# Altium integrated library Thermostat_Lib.IntLib: 22 symbols
Pins are listed as number, name and electrical type; pins without a type are passive.

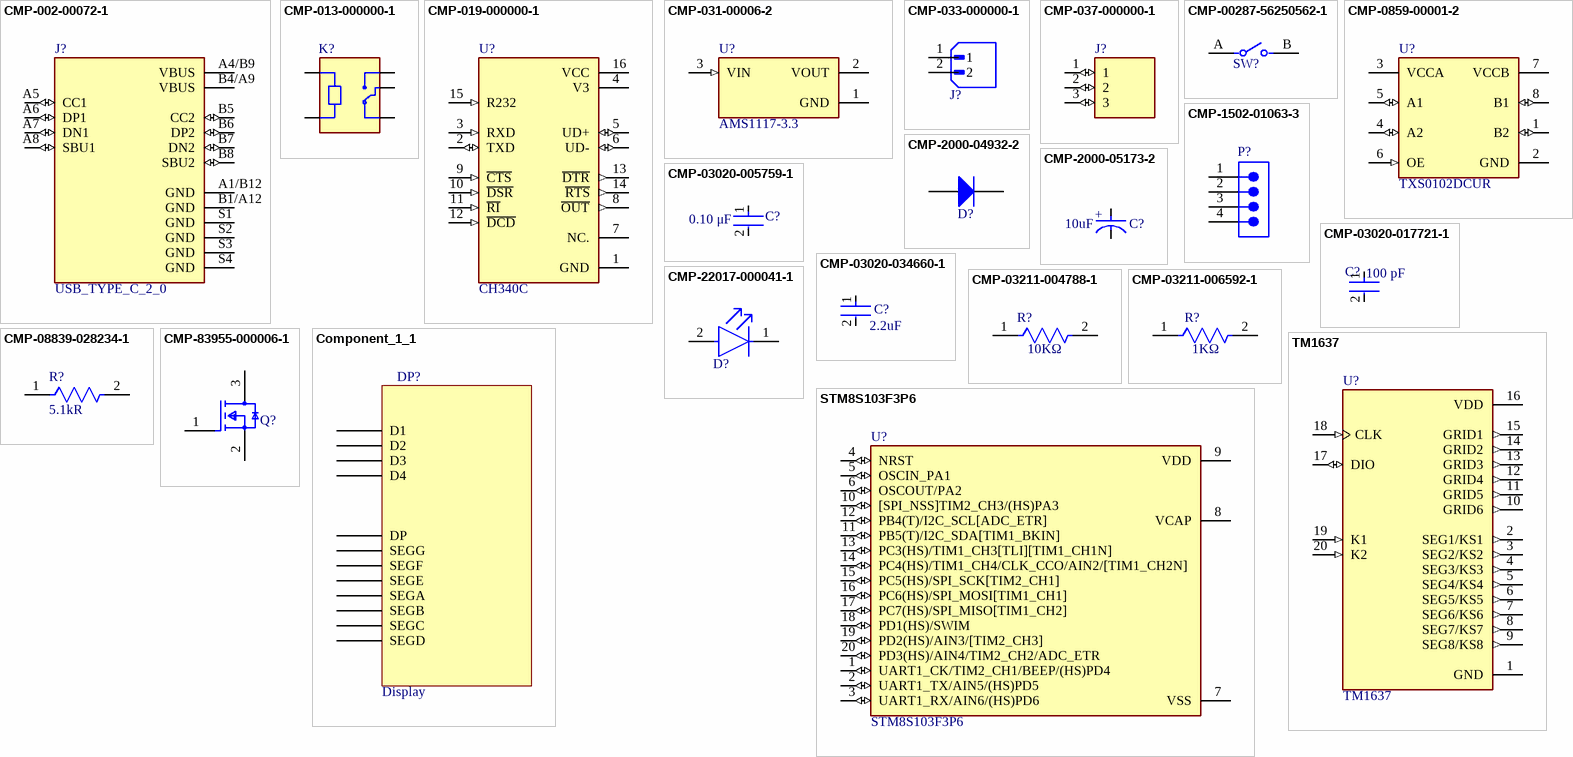
[diagram p0: symbols CMP-002-00072-1 to TM1637]

## CMP-002-00072-1
designator J?, comment USB_TYPE_C_2_0
USB-C (USB TYPE-C) USB 2.0 Receptacle Connector 24 (16+8 Dummy) Position Surface Mount, Right Angle; MP: USB4110GFA; MF: Global Connector Technology; Check_prices: https://www.snapeda.com/parts/USB4110GFA/Global+Connector+Technology/view-part/?ref=eda; Design Item ID: USB4110GFA; Source: USB4110GFA.SchLib; Pins: 16; Component Type: Standard; SnapEDA_Link: https://www.snapeda.com/parts/USB4110GFA/Global+Connector+Technology/view-part/?ref=snap; Value: *; Case/Package: None; Component Type: Connectors
footprint GCT_USB4110GFA
pins: A1/B12 GND (power), A4/B9 VBUS (power), A5 CC1 (io), A6 DP1 (io), A7 DN1 (io), A8 SBU1 (io), B1/A12 GND (power), B4/A9 VBUS (power), B5 CC2 (io), B6 DP2 (io), B7 DN2 (io), B8 SBU2 (io), S1 GND (power), S2 GND (power), S3 GND (power), S4 GND (power)

## CMP-013-000000-1
designator K?, comment SRD-05VDC-SL-C  (value not drawn)
5V Trigger Relay Module For Arduino And Raspberry Pi 5V Trigger Relay Module For Arduino And Raspberry Pi; MF: Songle Relay; Source: SRD-05VDC-SL-C.SchLib; Check_prices: https://www.snapeda.com/parts/SRD-05VDC-SL-C/Songle+Relay/view-part/?ref=eda; Component Type: Standard; MP: SRD-05VDC-SL-C; SnapEDA_Link: https://www.snapeda.com/parts/SRD-05VDC-SL-C/Songle+Relay/view-part/?ref=snap; Price: None; Package: NON STANDARD-5 Songle Relay; Availability: Not in stock; Design Item ID: SRD-05VDC-SL-C; Value: *; Pin Count: 5
footprint RELAY_SRD-05VDC-SL-C
pins: A1, A2, COM, NC, NO

## CMP-019-000000-1
designator U?, comment CH340C
USB to serial chip CH340; MF: WCH; Component Type: Standard; Design Item ID: CH340C; Availability: Not in stock; MP: CH340C; Value: *; Source: CH340C.SchLib; SnapEDA_Link: https://www.snapeda.com/parts/CH340C/WCH/view-part/?ref=snap; Package: None; Pin Count: 16; Check_prices: https://www.snapeda.com/parts/CH340C/WCH/view-part/?ref=eda; Price: None
footprint SOIC127P600X180-16N
pins: 1 GND (power), 2 TXD (io), 3 RXD (in), 4 V3 (power), 5 UD+ (io), 6 UD- (io), 7 NC., 8 ~{OUT} (out), 9 ~{CTS} (in), 10 ~{DSR} (in), 11 ~{RI} (in), 12 ~{DCD} (in), 13 ~{DTR} (out), 14 ~{RTS} (out), 15 R232 (in), 16 VCC (power)

## CMP-031-00006-2
designator U?, comment AMS1117-3.3
Linear Voltage Regulator IC Positive Fixed 1 Output 1A SOT-223-3L; MF: UMW; SnapEDA_Link: https://www.snapeda.com/parts/AMS1117-3.3/UMW/view-part/?ref=snap; Value: *; Pins: 3; Source: AMS1117-3.3.SchLib; Check_prices: https://www.snapeda.com/parts/AMS1117-3.3/UMW/view-part/?ref=eda; MP: AMS1117-3.3; Case/Package: SOT-223-3L UMW; Design Item ID: AMS1117-3.3; Component Type: Standard; Component Type: Integrated Circuits
footprint SOT229P700X180-4N
pins: 1 GND, 2 VOUT (power), 3 VIN (in)

## CMP-033-000000-1
designator J?, comment B2B-XH-A  (value not drawn)
MF: {'manufacturer': u'JST Sales America Inc.'}; Pin Count: 2; Source: B2B-XH-A.SchLib; Availability: Unavailable; Design Item ID: B2B-XH-A; Component Type: Standard; Value: *; Price: None; Package: None; MP: B2B-XH-A
footprint JST_B2B-XH-A
pins: 1, 2

## CMP-037-000000-1
designator J?, comment 39543-0603  (value not drawn)
3 Position Wire to Board Terminal Block Horizontal with Board 0.197 (5.00mm) Through Hole; MF: Molex; MP: 395430603; Component Type: Standard; SnapEDA_Link: https://www.snapeda.com/parts/395430603/Molex/view-part/?ref=snap; Package: None; Check_prices: https://www.snapeda.com/parts/395430603/Molex/view-part/?ref=eda; Value: *; Source: 39543-0603.SchLib; Design Item ID: 39543-0603; Pin Count: 3; Component Type: Mechanicals
footprint 39543-0603
pins: 1 (io), 2 (io), 3 (io)

## CMP-00287-56250562-1
designator SW?, comment EVQ-QJJ05Q  (value not drawn)
EVQ-QJJ05Q Switch Tactile N.O. SPST Round Button PC Pins 0.005A 12VDC 0.8N Thru-Hole Radial T/R; NexarPartId: 56250562; Current Rating: 5mA; Life (Cycles): 1Mcycles; Switch Travel: 1mm; Illumination Type: Illuminated, Non-Illuminated; Operating Force: 800mN; Actuator Length: 1.5mm; Voltage Rating (DC): 12V; Contact Resistance: 200mΩ; Switch Function: Off-Mom; Contact Current Rating: 5mA; Radiation Hardening: No; Height: 5mm; Lead Free: Lead Free; Mechanical Life: 1Mcycles; REACH SVHC: No SVHC; RoHS: Compliant; Orientation: Straight; Case/Package: Axial; Contact Plating: Silver; Length: 8mm; Width: 8mm; Max Operating Temperature: 70°C; Max Voltage Rating (DC): 12V; Termination: PC Pin; Electrical Life: 1Mcycles; Throw Configuration: SPST; Mount: Through Hole; Packaging: Tape & Box (TB); Min Operating Temperature: -20°C
footprint FP-EVQ-QJJ05Q-MFG (Switch Tactile N.O. SPST Round Button PC Pins 0.005A 12VDC 0.8N Thru-Hole Radial T/R)
pins: A, B

## CMP-0859-00001-2
designator U?, comment TXS0102DCUR
IC TRNSLTR BIDIRECTIONAL US8; Manufacturer: Texas Instruments; Number Of Circuits: 1; Number Of Inputs: 2; Data Rate: 24Mbits/s; Max Junction Temp: +150°C; V A Min: 1.65V; Standoff Height: 0mm; Logic Function Desc: Bidirectional Voltage-Level Translator; Max Supply Voltage: 5.5V; V A Max: 3.6V; Nominal Supply Current: 1-14.4uA; V B Min: 2.3V; Temperature: -40°C to +85°C; Temperature Range Low: -40°C; Height: 0.9mm; Device Class L1: Integrated Circuits (ICs); RoHS: TRUE; Min Supply Voltage: 1.65V; Digikey Description: IC TRNSLTR BIDIRECTIONAL US8; ComponentLink2Description: Datasheet; Octopart: https://octopart.com/txs0102dcur-texas+instruments-5414308; Temperature Range High: +85°C; Device Class L2: Logic ICs; Category: IC; Ambient Temperature Range High: +85°C; Automotive: No; Manufacturer Part Number: TXS0102DCUR; Device Class L3: Voltage Level Shifters; Number Of Outputs: 2; Ambient Temperature Range Low: -40°C; Lead Free: Yes; ComponentLink2URL: http://www.ti.com/lit/ds/symlink/txs0102.pdf; V B Max: 5.5V; Package: DCU0008A; Mouser Description: Translation - Voltage Levels 2-Bit Bi-Directional Voltage-Level-Trans
footprint FP-DCU0008A-MFG
footprint FP-DCU0008A-IPC_C
footprint FP-DCU0008A-IPC_B
footprint FP-DCU0008A-IPC_A
pins: 1 B2 (io), 2 GND (power), 3 VCCA (power), 4 A2 (io), 5 A1 (io), 6 OE (in), 7 VCCB (power), 8 B1 (io)

## CMP-1502-01063-3
designator P?, comment 61300411021  (value not drawn)
NexarPartId: 31153320; Current Rating: 3A; Number of Contacts: 4; Gender: Male; Operating Supply Voltage: 250V; Contact Resistance: 20mΩ; Connector Type: Male Pin; Pitch: 2.54mm; Contact Material: Copper; Number of Positions: 4; Color: Black; Contact Plating: Gold; Number of Pins: 4; Termination: Solder; Number of Rows: 1; Lead Pitch: 2.54mm; Mount: Through Hole; Contact Mating Length: 5.9944mm; RoHS: Compliant; REACH SVHC: Unknown
footprint 61300411021 (THT Angled Pin Header WR-PHD, Pitch 2.54 mm, Single Row, 4 pins)
pins: 1, 2, 3, 4

## CMP-2000-04932-2
designator D?, comment 1N4148W-7-F  (value not drawn)
Fast Switching Diode, 100 V, 0.15 A, -65 to 150 degC, 2-Pin?SOD123, RoHS, Tape and Reel; Recovery Time: 4ns; Brand: DiodesIncorporated; Unit Weight: 0.000353oz; Max Surge Current: 2A; Peak Reverse Voltage: 100V; Ir - Reverse Current: 1uA; Vf - Forward Voltage: 1.25V; Configuration: Single; If - Forward Current: 0.15A; Product Category: Diodes-GeneralPurpose,Power,Switching; Operating Temperature Range: -65Cto+150C; Packaging: Reel; Manufacturer URL: http://www.diodes.com/; Maximum Operating Temperature: +150C; Height: 1.25mm; Minimum Operating Temperature: -65C; Product: SwitchingDiodes; Package URL: http://www.diodes.com/datasheets/ds18004.pdf; Type: SwitchingDiode; Package Reference: SOD123-2; Width: 1.7mm; Datasheet URL: http://www.farnell.com/datasheets/1915529.pdf; Datasheet Version: Rev. 24-2, 10/2013; Series: 1N4148; Factory Pack Quantity: 3000; Length: 2.85mm; RoHS: True; Manufacturer: DiodesIncorporated; Mounting Style: SMD/SMT; Package / Case: SOD-123
footprint DIOD-SOD123-2_V (SOD123, 2-Leads, Body 2.7x1.55mm, Height 1.45mm)
pins: 1 A, 2 K

## CMP-2000-05173-2
designator C?, comment Capacitance: 10uF  (hidden comment: T491A106K016AT)
CAP TANT 10UF 10% 16V 1206; ESR (Equivalent Series Resistance): 7R; Polarity: Polar; Dielectric Material: Tantalum; Leakage Current: 1.6uA; Ripple Current: 104mA; Life (Hours): 2000Hour; Failure Rate: 0.001%; Depth: 1.6mm; Length: 3.2mm; REACH SVHC: No SVHC; Max Operating Temperature: 125°C; Features: General Purpose; Case Code (Imperial): 1206; Case Code (Metric): 3216; Dissipation Factor: 10%; Width: 1.6mm; Packaging: Tape and Reel; Termination: SMD/SMT; Voltage Rating (DC): 16V; Mount: Surface Mount; Voltage Rating: 16V; Min Operating Temperature: -55°C; Height: 1.6mm; Lead Free: Lead Free; Package Quantity: 1; Lead Pitch: 1.2mm; Number of Pins: 2; Height - Seated (Max): 0.071inch; Radiation Hardening: No; Voltage: 16V; RoHS Compliant: Yes; Case/Package: 1206; Tolerance: 10%
footprint FP-T491A106K016AT-MFG
pins: 1 C, 2 A
text: +

## CMP-03020-005759-1
designator C?, comment Capacitance: 0.10 μF  (hidden comment: C1206C104K5RACAUTO)
CAP CER 0.1UF 50V X7R 1206; Manufacturer: KEMET; Temperature Coefficient: 15%; Value: 0.10 μF; Material: Ceramic; Automotive Grade: Grade 0; Tolerance: 0.1; RoHS: TRUE; Lead Free: Yes; ComponentLink2Description: Datasheet; Automotive: Yes; Temperature Characteristic: X7R; Temperature Range Low: -55°C; Voltage Rating: 50 V; Device Class L1: Passive Components; Ipc Land Pattern Name: CAPC320160X78; Mouser Description: Multilayer Ceramic Capacitors MLCC - SMD/SMT 0.1uF 50volts 10% X7R AUTO; Octopart: https://octopart.com/c1206c104k5racauto-kemet-12595586; Device Class L3: Ceramic Capacitors; Manufacturer Part Number: C1206C104K5RACAUTO; Digikey Description: CAP CER 0.1UF 50V X7R 1206; Temperature Range High: +150°C; Temperature: -55°C to +150°C; Device Class L2: Capacitors; ComponentLink2URL: https://content.kemet.com/datasheets/KEM_C1007_X8R_ULTRA_150C_SMD.pdf; Package: C1206C-EB; Category: Cap; Height: 0.88mm
footprint FP-C1206C-EB-MFG
footprint FP-C1206C-EB-IPC_C
footprint FP-C1206C-EB-IPC_B
footprint FP-C1206C-EB-IPC_A
pins: 1, 2

## CMP-03020-017721-1
designator C?, comment Capacitance: 100 pF  (hidden comment: C1206C101K5RACTU)
C1206 100 pF X7R 10.00% 50 V; Manufacturer: KEMET; Temperature Coefficient: 15%; Material: Ceramic; Value: 100 pF; Automotive Grade: Grade 0; Tolerance: 0.1; Voltage Rating: 50 V; RoHS: TRUE; Device Class L2: Capacitors; Automotive: Yes; Manufacturer Part Number: C1206C101K5RACTU; Temperature Range High: +150°C; Category: Cap; Device Class L1: Passive Components; Ipc Land Pattern Name: CAPC320160X78; Temperature: -55°C to +150°C; Temperature Range Low: -55°C; Package: C1206C-EB; ComponentLink2Description: Datasheet; Lead Free: Yes; Mouser Description: Cap Ceramic 100pF 50V X7R 10% SMD 1206 125°C Embossed Plastic T/R; Height: 0.88mm; Octopart: https://octopart.com/c1206c101k5ractu-kemet-67313462; Device Class L3: Ceramic Capacitors; Temperature Characteristic: X7R; ComponentLink2URL: https://content.kemet.com/datasheets/KEM_C1007_X8R_ULTRA_150C_SMD.pdf
footprint FP-C1206C-EB-MFG
footprint FP-C1206C-EB-IPC_C
footprint FP-C1206C-EB-IPC_B
footprint FP-C1206C-EB-IPC_A
pins: 1, 2

## CMP-03020-034660-1
designator C?, comment Capacitance: 2.2uF  (hidden comment: C1206C225K5RACAUTO)
CAP CER 2.2UF 50V X7R 1206; Tolerance: 10%; Dielectric Material: Ceramic; Case Code (Metric): 3216; Voltage Rating (DC): 50V; Max Operating Temperature: 125°C; Voltage Rating: 50V; Construction: Flat; Package Quantity: 1; Width: 0.063inch; Radiation Hardening: No; Packaging: Tape and Reel; Ratings: AEC-Q200; Contact Plating: Tin; Dielectric: X7R; RoHS Compliant: Yes; Length: 3.2mm; Thickness: 0.071inch; Case/Package: 1206; Series: C; Depth: 1.6mm; REACH SVHC: No SVHC; Mount: Surface Mount; Height: 1.6mm; Termination: SMD/SMT; Case Code (Imperial): 1206; Min Operating Temperature: -55°C
footprint FP-C1206C225K5RACAUTO-MFG
footprint FP-C1206C225K5RACAUTO-IPC_C
footprint FP-C1206C225K5RACAUTO-IPC_B
footprint FP-C1206C225K5RACAUTO-IPC_A
pins: 1, 2

## CMP-03211-004788-1
designator R?, comment Resistance: 10KΩ  (hidden comment: CRGP1206F10K)
10 kOhm 5% 0,25W 200V 1206 (RC1206JR-10KR-Hitano) (резистор SMD) / 10 kOhm 5% 0,25W 200V 1206 (RC1206JR-10KR-Hitano) (резистор SMD); Manufacturer: TE; Temperature Coefficient: ±100ppm/°C; Value: 10KΩ; Tolerance: 0.01; Power Rating: 0.5W; Package: CRGP1206; Ambient Temperature Range High: +70°C; Device Class L2: Resistors; Lead Free: Yes; Automotive: No; Series: CRGP; Temperature Range High: +155°C; Ipc Land Pattern Name: RESC310155X55; Device Class L1: Passive Components; Octopart: https://octopart.com/crgp1206f10k-te+connectivity-91018843; Temperature: -55°C to +155°C; Category: Res; Height: 0.65mm; Temperature Range Low: -55°C; RoHS: TRUE; Manufacturer Part Number: CRGP1206F10K; Digikey Description: CRGP 1206 10K 1%; Device Class L3: Chip SMD Resistors; Composition: Thick Film; ComponentLink2URL: https://www.mouser.com/datasheet/2/418/NG_DS_9-1773463-9_A-1358566.pdf; ComponentLink2Description: Datasheet; Voltage Rating: 200V
footprint FP-CRGP1206-IPC_C
footprint FP-CRGP1206-IPC_B
footprint FP-CRGP1206-IPC_A
pins: 1, 2

## CMP-03211-006592-1
designator R?, comment value 1KΩ  (hidden comment: CRGCQ1206F1K0)
1 kOhm 5% 0,25W 200V 1206 (RC1206JR-1KR-Hitano) (резистор SMD); Manufacturer: TE Connectivity; Automotive Grade: Grade 685; Power Rating: 0.25W; Temperature Coefficient: ±100ppm/°C; Tolerance: 0.01; Ipc Land Pattern Name: RESC310155X55; Temperature Range Low: -55°C; Device Class L3: Chip SMD Resistors; ComponentLink2URL: https://www.te.com/commerce/DocumentDelivery/DDEController?Action=showdoc&DocId=Data+Sheet%7F1773204-3%7F1%7Fpdf%7FEnglish%7FENG_DS_1773204-3_1.pdf%7F4-2176347-694; Automotive: Yes; Temperature: -55°C to +155°C; Manufacturer Part Number: CRGCQ1206F1K0; Package: CRGCQ1206; Octopart: https://octopart.com/crgcq1206f1k0-te+connectivity-91018258; Device Class L1: Passive Components; Series: CRGCQ; Device Class L2: Resistors; RoHS: TRUE; Lead Free: Yes; ComponentLink2Description: Datasheet; Voltage Rating: 200V; Temperature Range High: +155°C; Height: 0.65mm; Category: Res; Resistance: 1KΩ; Composition: Thick Film; Ambient Temperature Range High: +70°C
footprint FP-CRGCQ1206-IPC_C
footprint FP-CRGCQ1206-IPC_B
footprint FP-CRGCQ1206-IPC_A
pins: 1, 2

## CMP-08839-028234-1
designator R?, comment Resistance: 5.1kR  (hidden comment: ESR18EZPF5101)
5,1 kOhm 1% 0,25W 200V 1206 (RC1206FR-5K1R-Hitano) (резистор SMD) / 5,1 kOhm 1% 0,25W 200V 1206 (RC1206FR-5K1R-Hitano) (резистор SMD); Temperature Coefficient: 100ppm/°C; Max Power Dissipation: 333mW; Resistor Type: Thick Film; Max Operating Temperature: 155°C; Min Operating Temperature: -55°C; Features: Automotive AEC-Q200; Height: 0.026inch; Length: 0.126inch; Packaging: Tape and Reel; Width: 0.063inch; Case/Package: 1206; Tolerance: 1%; Series: ESR18; Number of Terminations: 2; RoHS Compliant: Yes; Package Quantity: 5000
footprint FP-ESR18-IPC_A
footprint FP-ESR18-IPC_B
footprint FP-ESR18-IPC_C
footprint FP-ESR18-MFG
pins: 1, 2

## CMP-22017-000041-1
designator D?, comment LTST-C230KRKT  (value not drawn)
LED RED CLEAR CHIP SMD; Dominant Wavelength: 631nm; Lens Color: Colorless; Lens Style: Diffused; Forward Voltage: 2V; Test Current: 20mA; Luminous Intensity: 54mcd; Number of LEDs: 1; Viewing Angle: 130°; Power Rating: 75mW; Forward Current: 30mA; Wavelength: 639nm; Reverse Voltage: 5V; Min Operating Temperature: -55°C; Height: 1.1mm; Length: 3.2mm; Lens Transparency: Clear; Case/Package: 1206; Package Quantity: 1; Width: 1.6mm; Max Operating Temperature: 85°C; Packaging: Tape and Reel; RoHS Compliant: Yes; Mount: Surface Mount; Lead Free: Lead Free; Depth: 1.6mm; Power Dissipation: 75mW; Number of Pins: 2; Number of Elements: 1; Color: Red; Illumination Color: Red; Case Code (Imperial): 1206; Case Code (Metric): 3216; Radiation Hardening: No
footprint FP-LTST-C230KRKT-MFG
pins: 1 C, 2 A

## CMP-83955-000006-1
designator Q?, comment AO3400A  (value not drawn)
MOSFET N-CH 30V 5.7A SOT23; Input Capacitance: 630pF; Number of Elements: 1; Rds On Max: 26.5mR; Max Power Dissipation: 1.4W; Gate to Source Voltage (Vgs): 12V; Min Operating Temperature: -55°C; Lead Free: Lead Free; Number of Pins: 3; Drain to Source Voltage (Vdss): 30V; Case/Package: SOT-23; Mount: Surface Mount; Continuous Drain Current (ID): 5.7A; Radiation Hardening: No; Packaging: Tape and Reel; Max Operating Temperature: 150°C; Power Dissipation: 1.4W
footprint FP-SOT23-MFG
footprint FP-SOT23-IPC_C
footprint FP-SOT23-IPC_B
footprint FP-SOT23-IPC_A
pins: 1 G, 2 S, 3 D

## Component_1_1
designator DP?, comment Display
footprint CL3641AH (4 digit 7 segment led common anode led display)
pins: D1, D2, D3, D4, DP, SEGA, SEGB, SEGC, SEGD, SEGE, SEGF, SEGG

## STM8S103F3P6
designator U?
STM8 series Microcontroller IC 8-Bit 16MHz 8KB (8K x 8) FLASH 20-TSSOP; MF: STMicroelectronics; SnapEDA_Link: https://www.snapeda.com/parts/STM8S103F3P6/STMicroelectronics/view-part/?ref=snap; Package: TSSOP-20 STMicroelectronics; Value: *; MP: STM8S103F3P6; Check_prices: https://www.snapeda.com/parts/STM8S103F3P6/STMicroelectronics/view-part/?ref=eda
footprint SOP65P640X120-20N
pins: 1 UART1_CK/TIM2_CH1/BEEP/(HS)PD4 (io), 2 UART1_TX/AIN5/(HS)PD5 (io), 3 UART1_RX/AIN6/(HS)PD6 (io), 4 NRST (io), 5 OSCIN_PA1 (io), 6 OSCOUT/PA2 (io), 7 VSS (power), 8 VCAP, 9 VDD (power), 10 [SPI_NSS]TIM2_CH3/(HS)PA3 (io), 11 PB5(T)/I2C_SDA[TIM1_BKIN] (io), 12 PB4(T)/I2C_SCL[ADC_ETR] (io), 13 PC3(HS)/TIM1_CH3[TLI][TIM1_CH1N] (io), 14 PC4(HS)/TIM1_CH4/CLK_CCO/AIN2/[TIM1_CH2N] (io), 15 PC5(HS)/SPI_SCK[TIM2_CH1] (io), 16 PC6(HS)/SPI_MOSI[TIM1_CH1] (io), 17 PC7(HS)/SPI_MISO[TIM1_CH2] (io), 18 PD1(HS)/SWIM (io), 19 PD2(HS)/AIN3/[TIM2_CH3] (io), 20 PD3(HS)/AIN4/TIM2_CH2/ADC_ETR (io)

## TM1637
designator U?
LED Drive Control Special Circuit; MF: Titan Micro Electronics; SnapEDA_Link: https://www.snapeda.com/parts/TM1637/Titan+Micro+Electronics/view-part/?ref=snap; Package: None; Value: *; MP: TM1637; Check_prices: https://www.snapeda.com/parts/TM1637/Titan+Micro+Electronics/view-part/?ref=eda
footprint NS0020A_N (SOIC,20-Leads,Body 12.9x5.6mm,Pitch 1.27mm,IPC Medium Density)
pins: 1 GND (power), 2 SEG1/KS1 (out), 3 SEG2/KS2 (out), 4 SEG3/KS3 (out), 5 SEG4/KS4 (out), 6 SEG5/KS5 (out), 7 SEG6/KS6 (out), 8 SEG7/KS7 (out), 9 SEG8/KS8 (out), 10 GRID6 (out), 11 GRID5 (out), 12 GRID4 (out), 13 GRID3 (out), 14 GRID2 (out), 15 GRID1 (out), 16 VDD (power), 17 DIO (io), 18 CLK (in), 19 K1 (in), 20 K2 (in)